# EAGLE library part PCM5102A (library Egna komponenter)
Audio Stereo DAC Audio Stereo DAC with PLL and 32-bit, 384 kHz PCM Interface Phase Lock Loop (PLL).
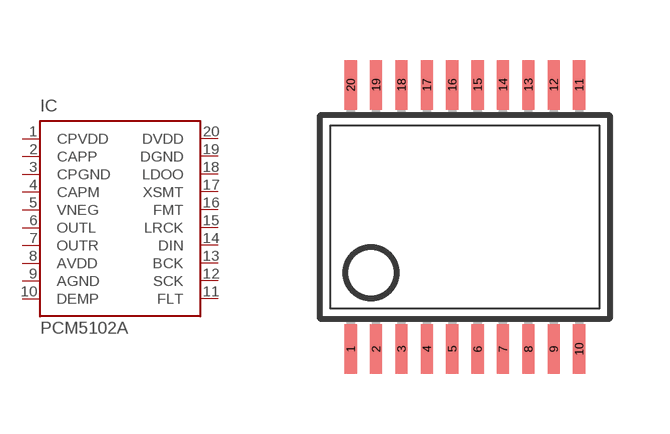
[diagram p0: symbol with the pads of SSOP20; footprint SSOP20]

Designator prefix IC

## PCM5102A  [SSOP20]
1  CPVDD  pwr
2  CAPP
3  CPGND  pwr
4  CAPM
5  VNEG
6  OUTL  out
7  OUTR  out
8  AVDD  pwr
9  AGND  pwr
10  DEMP  in
11  FLT  in
12  SCK  in
13  BCK  in
14  DIN  in
15  LRCK  in
16  FMT  in
17  XSMT  in
18  LDOO  pwr
19  DGND  pwr
20  DVDD  pwr

## Footprint SSOP20 (pad centres in mm)
Small Shrink Outline Package
smd 0.305 x 1.245: 1 -2.857,-3.302; 2 -2.222,-3.302; 3 -1.587,-3.302; 4 -0.952,-3.302; 5 -0.317,-3.302; 6 0.318,-3.302; 7 0.953,-3.302; 8 1.588,-3.302; 9 2.223,-3.302; 10 2.858,-3.302; 11 2.858,3.302; 12 2.223,3.302; 13 1.588,3.302; 14 0.953,3.302; 15 0.318,3.302; 16 -0.317,3.302; 17 -0.952,3.302; 18 -1.587,3.302; 19 -2.222,3.302; 20 -2.857,3.302